# Altium schematic symbol library SCH - ARM Cortex - NXP K32L2B31VLH0A.SchLib: 1 symbol
Pins are listed as number, name and electrical type; pins without a type are passive.

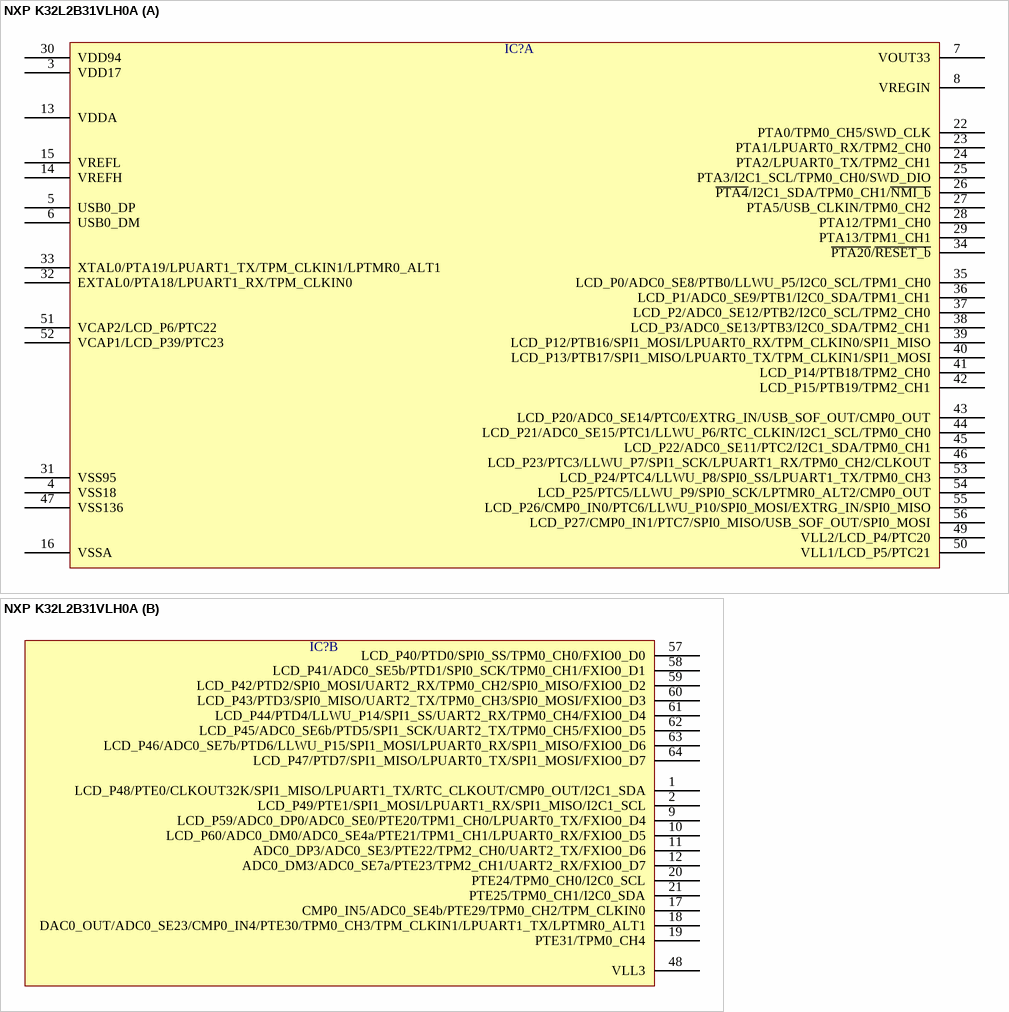
[diagram p0: symbol NXP K32L2B31VLH0A]

## NXP K32L2B31VLH0A
designator IC?  (value not drawn)
part A pins: 3 VDD17, 4 VSS18, 5 USB0_DP, 6 USB0_DM, 7 VOUT33, 8 VREGIN, 13 VDDA, 14 VREFH, 15 VREFL, 16 VSSA, 22 PTA0/TPM0_CH5/SWD_CLK, 23 PTA1/LPUART0_RX/TPM2_CH0, 24 PTA2/LPUART0_TX/TPM2_CH1, 25 PTA3/I2C1_SCL/TPM0_CH0/SWD_DIO, 26 ~{PTA4}/I2C1_SDA/TPM0_CH1/~{NMI_b}, 27 PTA5/USB_CLKIN/TPM0_CH2, 28 PTA12/TPM1_CH0, 29 PTA13/TPM1_CH1, 30 VDD94, 31 VSS95, 32 EXTAL0/PTA18/LPUART1_RX/TPM_CLKIN0, 33 XTAL0/PTA19/LPUART1_TX/TPM_CLKIN1/LPTMR0_ALT1, 34 ~{PTA20}/~{RESET_b}, 35 LCD_P0/ADC0_SE8/PTB0/LLWU_P5/I2C0_SCL/TPM1_CH0, 36 LCD_P1/ADC0_SE9/PTB1/I2C0_SDA/TPM1_CH1, 37 LCD_P2/ADC0_SE12/PTB2/I2C0_SCL/TPM2_CH0, 38 LCD_P3/ADC0_SE13/PTB3/I2C0_SDA/TPM2_CH1, 39 LCD_P12/PTB16/SPI1_MOSI/LPUART0_RX/TPM_CLKIN0/SPI1_MISO, 40 LCD_P13/PTB17/SPI1_MISO/LPUART0_TX/TPM_CLKIN1/SPI1_MOSI, 41 LCD_P14/PTB18/TPM2_CH0, 42 LCD_P15/PTB19/TPM2_CH1, 43 LCD_P20/ADC0_SE14/PTC0/EXTRG_IN/USB_SOF_OUT/CMP0_OUT, 44 LCD_P21/ADC0_SE15/PTC1/LLWU_P6/RTC_CLKIN/I2C1_SCL/TPM0_CH0, 45 LCD_P22/ADC0_SE11/PTC2/I2C1_SDA/TPM0_CH1, 46 LCD_P23/PTC3/LLWU_P7/SPI1_SCK/LPUART1_RX/TPM0_CH2/CLKOUT, 47 VSS136, 49 VLL2/LCD_P4/PTC20, 50 VLL1/LCD_P5/PTC21, 51 VCAP2/LCD_P6/PTC22, 52 VCAP1/LCD_P39/PTC23, 53 LCD_P24/PTC4/LLWU_P8/SPI0_SS/LPUART1_TX/TPM0_CH3, 54 LCD_P25/PTC5/LLWU_P9/SPI0_SCK/LPTMR0_ALT2/CMP0_OUT, 55 LCD_P26/CMP0_IN0/PTC6/LLWU_P10/SPI0_MOSI/EXTRG_IN/SPI0_MISO, 56 LCD_P27/CMP0_IN1/PTC7/SPI0_MISO/USB_SOF_OUT/SPI0_MOSI
part B pins: 1 LCD_P48/PTE0/CLKOUT32K/SPI1_MISO/LPUART1_TX/RTC_CLKOUT/CMP0_OUT/I2C1_SDA, 2 LCD_P49/PTE1/SPI1_MOSI/LPUART1_RX/SPI1_MISO/I2C1_SCL, 9 LCD_P59/ADC0_DP0/ADC0_SE0/PTE20/TPM1_CH0/LPUART0_TX/FXIO0_D4, 10 LCD_P60/ADC0_DM0/ADC0_SE4a/PTE21/TPM1_CH1/LPUART0_RX/FXIO0_D5, 11 ADC0_DP3/ADC0_SE3/PTE22/TPM2_CH0/UART2_TX/FXIO0_D6, 12 ADC0_DM3/ADC0_SE7a/PTE23/TPM2_CH1/UART2_RX/FXIO0_D7, 17 CMP0_IN5/ADC0_SE4b/PTE29/TPM0_CH2/TPM_CLKIN0, 18 DAC0_OUT/ADC0_SE23/CMP0_IN4/PTE30/TPM0_CH3/TPM_CLKIN1/LPUART1_TX/LPTMR0_ALT1, 19 PTE31/TPM0_CH4, 20 PTE24/TPM0_CH0/I2C0_SCL, 21 PTE25/TPM0_CH1/I2C0_SDA, 48 VLL3, 57 LCD_P40/PTD0/SPI0_SS/TPM0_CH0/FXIO0_D0, 58 LCD_P41/ADC0_SE5b/PTD1/SPI0_SCK/TPM0_CH1/FXIO0_D1, 59 LCD_P42/PTD2/SPI0_MOSI/UART2_RX/TPM0_CH2/SPI0_MISO/FXIO0_D2, 60 LCD_P43/PTD3/SPI0_MISO/UART2_TX/TPM0_CH3/SPI0_MOSI/FXIO0_D3, 61 LCD_P44/PTD4/LLWU_P14/SPI1_SS/UART2_RX/TPM0_CH4/FXIO0_D4, 62 LCD_P45/ADC0_SE6b/PTD5/SPI1_SCK/UART2_TX/TPM0_CH5/FXIO0_D5, 63 LCD_P46/ADC0_SE7b/PTD6/LLWU_P15/SPI1_MOSI/LPUART0_RX/SPI1_MISO/FXIO0_D6, 64 LCD_P47/PTD7/SPI1_MISO/LPUART0_TX/SPI1_MOSI/FXIO0_D7